# Altium footprint library Amphenol_HDMI.PcbLib: 2 footprints
Each footprint in its own frame and in the unit in brackets; x right, y up, seen from the top. Pads: shape width x height; smd on the part's side, far side on the other; paste and mask are expansions set on the pad; w line width, h text height; cw(c..) or ccw(c..) is an arc to the next point about the centre after c.
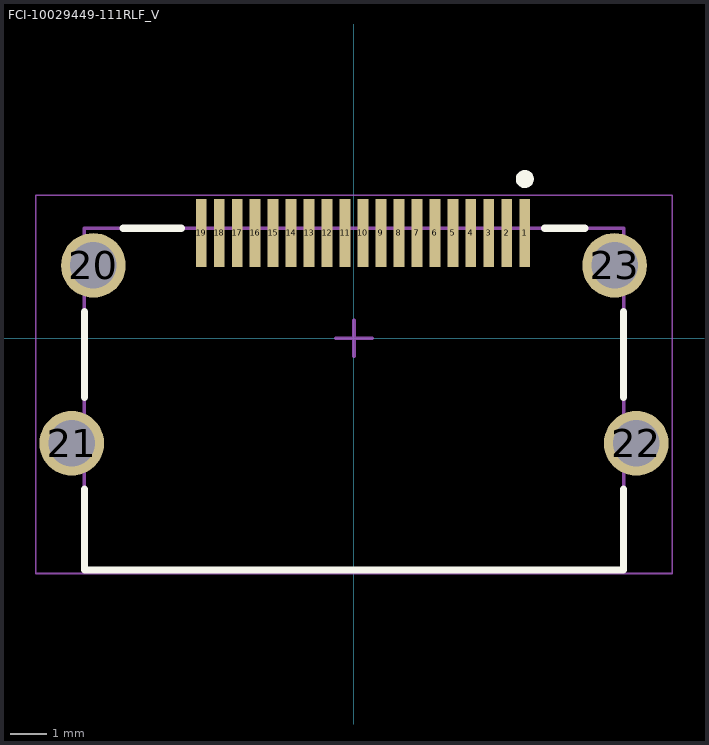
[diagram p0: the footprints below, top view; thin cyan lines are the x and y axes]

## FCI-10029449-111RLF_V [mm] "SMD, 19-Leads, Body 15x9.5mm, Pitch 0.5mm"
height 6.18
pads (23):
  rect 0.3x1.9 smd: 1(4.75,2.925) 2(4.25,2.925) 3(3.75,2.925) 4(3.25,2.925) 5(2.75,2.925) 6(2.25,2.925) 7(1.75,2.925) 8(1.25,2.925) 9(0.75,2.925) 10(0.25,2.925) 11(-0.25,2.925) 12(-0.75,2.925) 13(-1.25,2.925) 14(-1.75,2.925) 15(-2.25,2.925) 16(-2.75,2.925) 17(-3.25,2.925) 18(-3.75,2.925) 19(-4.25,2.925)
  round 1.8 hole 1.3: 20(-7.25,2.025) 21(-7.85,-2.925) 22(7.85,-2.925) 23(7.25,2.025)
Top Overlay:
  circle w0.25: c4.75,4.425 r0.125
  lines w0.2: -7.5,-4.195 -7.5,-6.445 7.5,-6.445 7.5,-4.195 ; -7.5,-1.655 -7.5,0.735 ; -6.42,3.055 -4.8,3.055 ; 5.3,3.055 6.42,3.055 ; 7.5,-1.655 7.5,0.735
Mechanical 13:
  lines w0.1: -7.5,-6.445 -7.5,3.055 7.5,3.055 7.5,-6.445 -7.5,-6.445
Mechanical 15:
  lines w0.05: -8.85,-6.545 8.85,-6.545 8.85,3.975 -8.85,3.975 -8.85,-6.545
  lines w0.1: -0.5,0 0.5,0 ; 0,-0.5 0,0.5
3D body "10029449-001LF.stp": height 6.11, standoff -1.89, extent -8.1,-6.445 8.1,3.455

## PCBComponent_1 [mm]